# EAGLE library part OTE2005B-HH053 (library MOTO_LIB)
+/- 5V charge pump
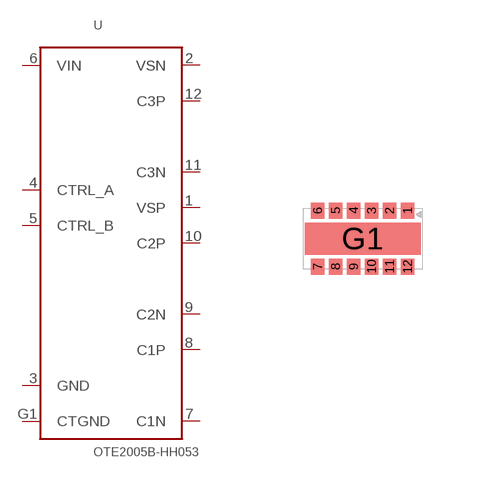
[diagram p18: symbol with the pads of DFN3X1_5PS0_45P13; footprint DFN3X1_5PS0_45P13]

Designator prefix U

## OTE2005B-HH053 (MPN: OTE2005BHH053; SUPPLIER: ORISE)  [DFN3X1_5PS0_45P13]
1  VSP
2  VSN
3  GND
4  CTRL_A
5  CTRL_B
6  VIN
7  C1N
8  C1P
9  C2N
10  C2P
11  C3N
12  C3P
G1  CTGND

## Footprint DFN3X1_5PS0_45P13 (pad centres in mm)
smd 0.33 x 0.4: 1 1.125,0.7; 2 0.675,0.7; 3 0.225,0.7; 4 -0.225,0.7; 5 -0.675,0.7; 6 -1.125,0.7; 7 -1.125,-0.7; 8 -0.675,-0.7; 9 -0.225,-0.7; 10 0.225,-0.7; 11 0.675,-0.7; 12 1.125,-0.7
smd 2.9 x 0.8: G1 0,0